# EAGLE library part TPS62290 (library texas-instruments)
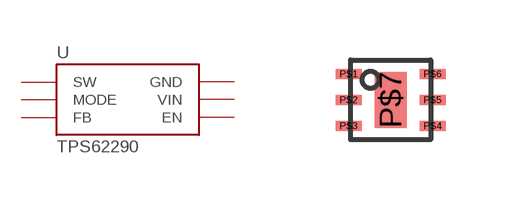
[diagram p0: symbol with the pads of SON-6; footprint SON-6]

Designator prefix -

## TPS62290  [SON-6]
P$1  SW
P$2  MODE
P$3  FB
P$4  EN
P$5  VIN  pwr
P$6  GND  pwr
P$7  TPAD  pwr

## Footprint SON-6 (pad centres in mm)
smd 0.65 x 0.25: P$1 -1.05,0.65; P$2 -1.05,0; P$3 -1.05,-0.65; P$4 1.05,-0.65; P$5 1.05,0; P$6 1.05,0.65
smd 0.8 x 1.4: P$7 0,0